# Altium integrated library Motorola Automotive Injection Driver.IntLib: 3 symbols
Pins are listed as number, name and electrical type; pins without a type are passive.

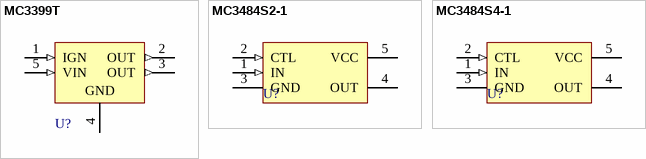
[diagram p0: symbols MC3399T to MC3484S4-1]

## MC3399T
designator U?
Automotive High-Side Driver Switch; Note: Heatsink surface connected to pin 2.; Published: 17-Jul-2002; DatasheetVersion: 1988; PackageReference: 314D-01; Publisher: Altium Limited; PackageDescription: TO, Thru-Hole, Vertical, Heatsink Mounted; 5 In-Line Leads; Pitch 1.70 mm; Code_JEDEC: TS-001-AA
footprint 314D-01 (TO, Thru-Hole, Vertical, Heatsink Mounted; 5 In-Line Leads; Pitch 1.70 mm)
pins: 1 IGN (in), 2 OUT (out), 3 OUT (out), 4 GND (power), 5 VIN (in)

## MC3484S2-1
designator U?
Integrated Solenoid Driver; Published: 17-Jul-2002; DatasheetVersion: 1988; PackageReference: 314D-01; Publisher: Altium Limited; PackageDescription: TO, Thru-Hole, Vertical, Heatsink Mounted; 5 In-Line Leads; Pitch 1.70 mm; Code_JEDEC: TS-001-AA
footprint 314D-01 (TO, Thru-Hole, Vertical, Heatsink Mounted; 5 In-Line Leads; Pitch 1.70 mm)
pins: 1 IN (in), 2 CTL (in), 3 GND (power), 4 OUT (oc), 5 VCC (power)

## MC3484S4-1
designator U?
Integrated Solenoid Driver; Published: 17-Jul-2002; DatasheetVersion: 1988; PackageReference: 314D-01; Publisher: Altium Limited; PackageDescription: TO, Thru-Hole, Vertical, Heatsink Mounted; 5 In-Line Leads; Pitch 1.70 mm; Code_JEDEC: TS-001-AA
footprint 314D-01 (TO, Thru-Hole, Vertical, Heatsink Mounted; 5 In-Line Leads; Pitch 1.70 mm)
pins: 1 IN (in), 2 CTL (in), 3 GND (power), 4 OUT (oc), 5 VCC (power)